# EAGLE library part BQ25616RTWT (library BQ25616RTWT)
Battery Management Standalone 1-cell 3.0-A buck battery charger with power path and 1.2-A boost operation 24-WQFN -40 to 85 Source: Datasheet <https://www.ti.com/lit/gpn/BQ25616>
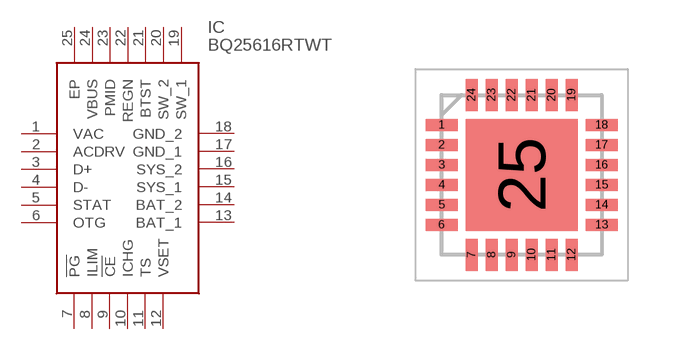
[diagram p0: symbol with the pads of QFN50P400X400X80-25N; footprint QFN50P400X400X80-25N]

Designator prefix IC

## BQ25616RTWT (Description: Battery Management Standalone 1-cell 3.0-A buck battery charger with power path and 1.2-A boost operation 24-WQFN -40 to 85; Height: 0.8mm; Manufacturer_Name: Texas Instruments; Manufacturer_Part_Number: BQ25616RTWT; Mouser_Part_Number: 595-BQ25616RTWT; Mouser_Price-Stock: https://www.mouser.co.uk/ProductDetail/Texas-Instruments/BQ25616RTWT?qs=GBLSl2AkirsF1eaqdbkEeA%3D%3D)  [QFN50P400X400X80-25N]
1  VAC
2  ACDRV
3  D+
4  D-
5  STAT
6  OTG
7  !PG
8  ILIM
9  !CE
10  ICHG
11  TS
12  VSET
13  BAT_1
14  BAT_2
15  SYS_1
16  SYS_2
17  GND_1
18  GND_2
19  SW_1
20  SW_2
21  BTST
22  REGN
23  PMID
24  VBUS
25  EP

## Footprint QFN50P400X400X80-25N (pad centres in mm)
RTW (S-PWQFN-N24)
smd 0.8 x 0.3: 1 -2,1.25; 2 -2,0.75; 3 -2,0.25; 4 -2,-0.25; 5 -2,-0.75; 6 -2,-1.25; 13 2,-1.25; 14 2,-0.75; 15 2,-0.25; 16 2,0.25; 17 2,0.75; 18 2,1.25
smd 0.3 x 0.8: 7 -1.25,-2; 8 -0.75,-2; 9 -0.25,-2; 10 0.25,-2; 11 0.75,-2; 12 1.25,-2; 19 1.25,2; 20 0.75,2; 21 0.25,2; 22 -0.25,2; 23 -0.75,2; 24 -1.25,2
smd 2.8 x 2.8: 25 0,0